# Altium schematic symbol library CD4066BE.SchLib: 1 symbol
Pins are listed as number, name and electrical type; pins without a type are passive.

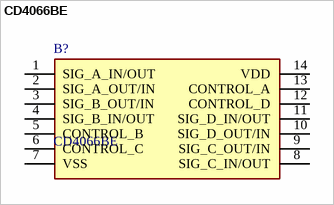
[diagram p0: symbol CD4066BE]

## CD4066BE
designator B?
CMOS Quad Bilateral Switch; Manufacturer_Name: Texas Instruments; Geometry.Height: 5.08mm; Mouser Part Number: 595-CD4066BE; Mouser Price/Stock: https://www.mouser.co.uk/ProductDetail/Texas-Instruments/CD4066BE?qs=mTHRaKC2c7ObpofRtjqLig%3D%3D; Manufacturer_Part_Number: CD4066BE; Datasheet Link: https://datasheet.datasheetarchive.com/originals/distributors/Datasheets-SFU2/DSASFU100028824.pdf
footprint DIP794W53P254L1930H508Q14N
pins: 1 SIG_A_IN/OUT, 2 SIG_A_OUT/IN, 3 SIG_B_OUT/IN, 4 SIG_B_IN/OUT, 5 CONTROL_B, 6 CONTROL_C, 7 VSS, 8 SIG_C_IN/OUT, 9 SIG_C_OUT/IN, 10 SIG_D_OUT/IN, 11 SIG_D_IN/OUT, 12 CONTROL_D, 13 CONTROL_A, 14 VDD